# Altium footprint library 8-UFDFN_EP.PcbLib: 1 footprints
Each footprint in its own frame and in the unit in brackets; x right, y up, seen from the top. Pads: shape width x height; smd on the part's side, far side on the other; paste and mask are expansions set on the pad; w line width, h text height; cw(c..) or ccw(c..) is an arc to the next point about the centre after c.
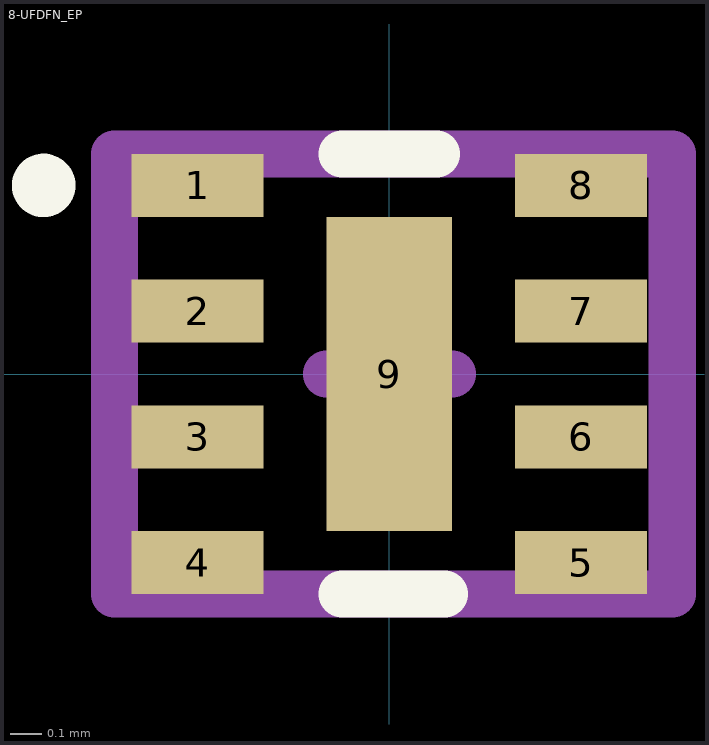
[diagram p0: the footprint, top view; thin cyan lines are the x and y axes]

## 8-UFDFN_EP [mm]
pads (9):
  rect 0.42x0.2 smd mask+0.051: 1(-0.61,0.6) 2(-0.61,0.2) 3(-0.61,-0.2) 4(-0.61,-0.6) 5(0.61,-0.6) 6(0.61,-0.2) 7(0.61,0.2) 8(0.61,0.6)
  rect 0.4x1 smd mask+0.051: 9(0,0)
Top Overlay:
  circle w0.152: c-1.1,0.6 r0.025
  lines w0.15: -0.15,-0.7 0.175,-0.7 ; -0.15,0.7 0.15,0.7
Mechanical 13:
  lines w0.15: -0.875,-0.7 0.9,-0.7 0.9,0.7 -0.875,0.7 -0.875,-0.7
Mechanical 15:
  lines w0.15: -0.2,0 0,0 ; 0,-0.2 0,0 ; 0,0.2 0,0 ; 0.2,0 0,0
3D body: height 0.6, standoff 0, extent -0.875,-0.7 0.875,0.7